# EAGLE library part ADF7012 (library Mine)
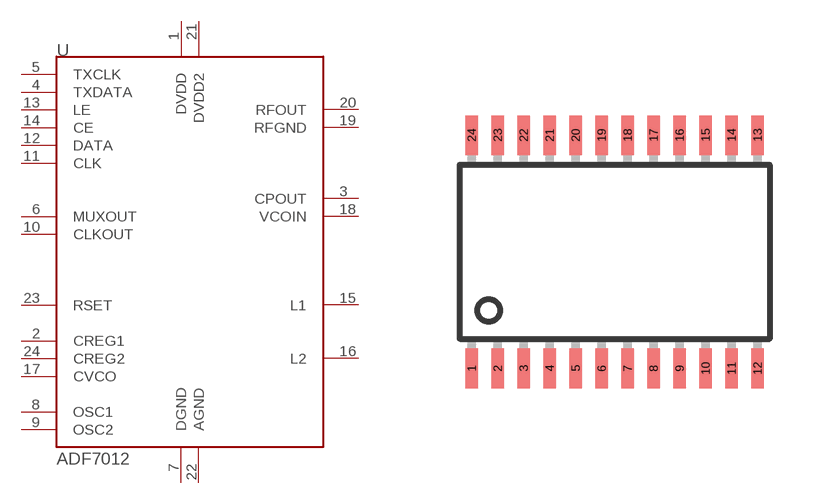
[diagram p36: symbol with the pads of TSSOP24; footprint TSSOP24]

Designator prefix -

## ADF7012  [TSSOP24]
1  DVDD  sup
2  CREG1  in
3  CPOUT  out
4  TXDATA  in
5  TXCLK  in
6  MUXOUT  out
7  DGND  sup
8  OSC1  out
9  OSC2  in
10  CLKOUT  out
11  CLK  in
12  DATA  in
13  LE  in
14  CE  in
15  L1
16  L2
17  CVCO
18  VCOIN  in
19  RFGND  sup
20  RFOUT
21  DVDD2  sup
22  AGND  sup
23  RSET  in
24  CREG2  in

## Footprint TSSOP24 (pad centres in mm)
24-Lead Thin Shrink Small Outline Package TSSOP (RU-24) Source: http://www.analog.com/UploadedFiles/Data_Sheets/39677768AD7714_c.pdf
smd 0.305 x 0.991: 1 -3.575,-2.918; 2 -2.925,-2.918; 3 -2.275,-2.918; 4 -1.625,-2.918; 5 -0.975,-2.918; 6 -0.325,-2.918; 7 0.325,-2.918; 8 0.975,-2.918; 9 1.625,-2.918; 10 2.275,-2.918; 11 2.925,-2.918; 12 3.575,-2.918; 13 3.575,2.918; 14 2.925,2.918; 15 2.275,2.918; 16 1.625,2.918; 17 0.975,2.918; 18 0.325,2.918; 19 -0.325,2.918; 20 -0.975,2.918; 21 -1.625,2.918; 22 -2.275,2.918; 23 -2.925,2.918; 24 -3.575,2.918